# Altium footprint library PcbLib1.PcbLib: 4 footprints
Each footprint in its own frame and in the unit in brackets; x right, y up, seen from the top. Pads: shape width x height; smd on the part's side, far side on the other; paste and mask are expansions set on the pad; w line width, h text height; cw(c..) or ccw(c..) is an arc to the next point about the centre after c.
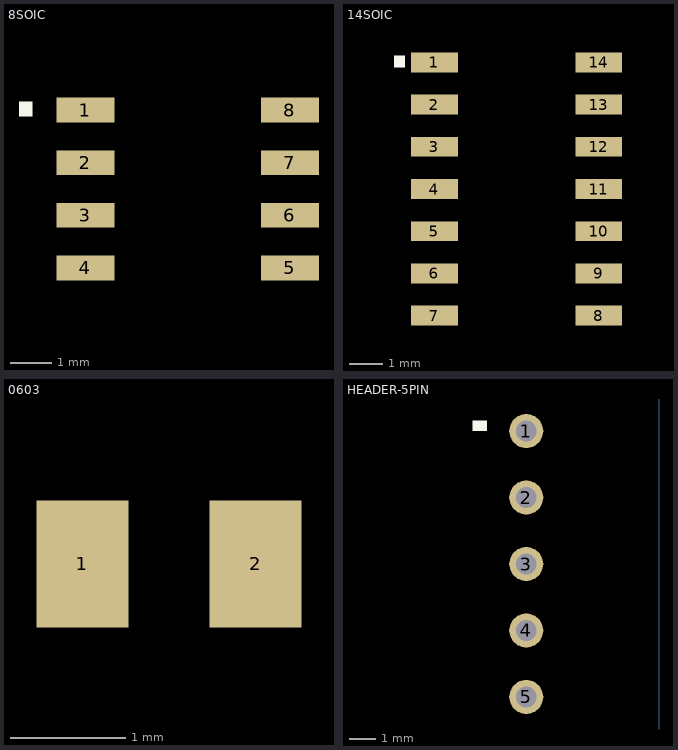
[diagram p0: the footprints below, top view; thin cyan lines are the x and y axes]

## 8SOIC [mm]
pads (8):
  rect 1.4x0.6 smd mask+0.152: 1(-9.88,-3.81) 2(-9.88,-5.08) 3(-9.88,-6.35) 4(-9.88,-7.62) 5(-4.94,-7.62) 6(-4.94,-6.35) 7(-4.94,-5.08) 8(-4.94,-3.81)
Top Overlay:
  rectangle: -11.481,-3.962 -11.151,-3.607
3D body "SO_358DT_STM.step": height 1.76, standoff 0, extent -10.516,-8.217 -4.318,-3.213

## 14SOIC [mm]
pads (14):
  rect 1.4x0.6 smd mask+0.152: 1(-9.88,-3.81) 2(-9.88,-5.08) 3(-9.88,-6.35) 4(-9.88,-7.62) 5(-9.88,-8.89) 6(-9.88,-10.16) 7(-9.88,-11.43) 8(-4.94,-11.43) 9(-4.94,-10.16) 10(-4.94,-8.89) 11(-4.94,-7.62) 12(-4.94,-6.35) 13(-4.94,-5.08) 14(-4.94,-3.81)
Top Overlay:
  rectangle: -11.1,-3.962 -10.77,-3.607
3D body "LM2902DR.step": height 1.75, standoff 0, extent -10.366,-11.945 -4.366,-3.295

## 0603 [mm]
pads (2):
  rect 0.8x1.1 smd mask+0.152: 1(-4.5,-3) 2(-3,-3)
3D body "RC0603N_YAG.step": height 0.71, standoff 0, extent -4.559,-3.403 -2.959,-2.591

## HEADER-5PIN [mm]
pads (5):
  round 1.3 hole 0.8 mask+0.152: 1(-5.08,-5.08) 2(-5.08,-7.62) 3(-5.08,-10.16) 4(-5.08,-12.7) 5(-5.08,-15.24)
Top Overlay:
  rectangle: -7.125,-5.075 -6.575,-4.675
3D body "61300511121_Download_STP_61300511121_rev1.stp": height 8.57, standoff -2.97, extent -6.35,-16.51 -3.81,-3.81